# EAGLE library part MBUS_MALE_NEW (library neels)
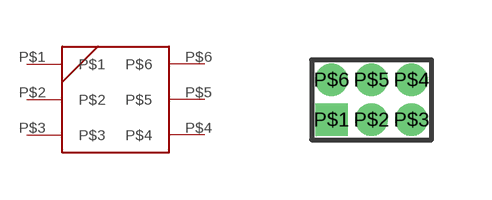
[diagram p9: symbol with the pads of MBUS_MALE_NEW; footprint MBUS_MALE_NEW]

Designator prefix -

## MBUS_MALE_NEW  [MBUS_MALE_NEW]
P$1  P$1
P$2  P$2
P$3  P$3
P$4  P$4
P$5  P$5
P$6  P$6

## Footprint MBUS_MALE_NEW (pad centres in mm)
drill 0.3 pad 0.61 square: P$1 0,0
drill 0.3 pad 0.61: P$2 1,0; P$3 2,0; P$4 2,1; P$5 1,1; P$6 0,1